# EAGLE library part EZMATE-7 (library balto)
Molex Pico-EZMate
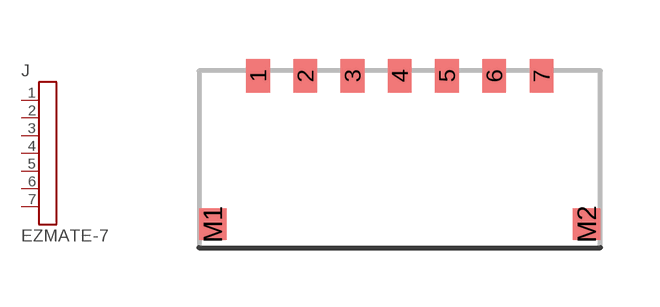
[diagram p75: symbol with the pads of EZMATE-7; footprint EZMATE-7]

Designator prefix J

## EZMATE-7  [EZMATE-7]
1  P$1
2  P$2
3  P$3
4  P$4
5  P$5
6  P$6
7  P$7

## Footprint EZMATE-7 (pad centres in mm)
Molex Pico-EZMate
smd 0.6 x 0.85: 1 -3.6,3.775; 2 -2.4,3.775; 3 -1.2,3.775; 4 0,3.775; 5 1.2,3.775; 6 2.4,3.775; 7 3.6,3.775
smd 0.7 x 0.8: M1 -4.75,0; M2 4.75,0